# Altium footprint library Footprint Library.PcbLib: 55 footprints (part 2 of 4)
Each footprint in its own frame and in the unit in brackets; x right, y up, seen from the top. Pads: shape width x height; smd on the part's side, far side on the other; paste and mask are expansions set on the pad; w line width, h text height; cw(c..) or ccw(c..) is an arc to the next point about the centre after c.
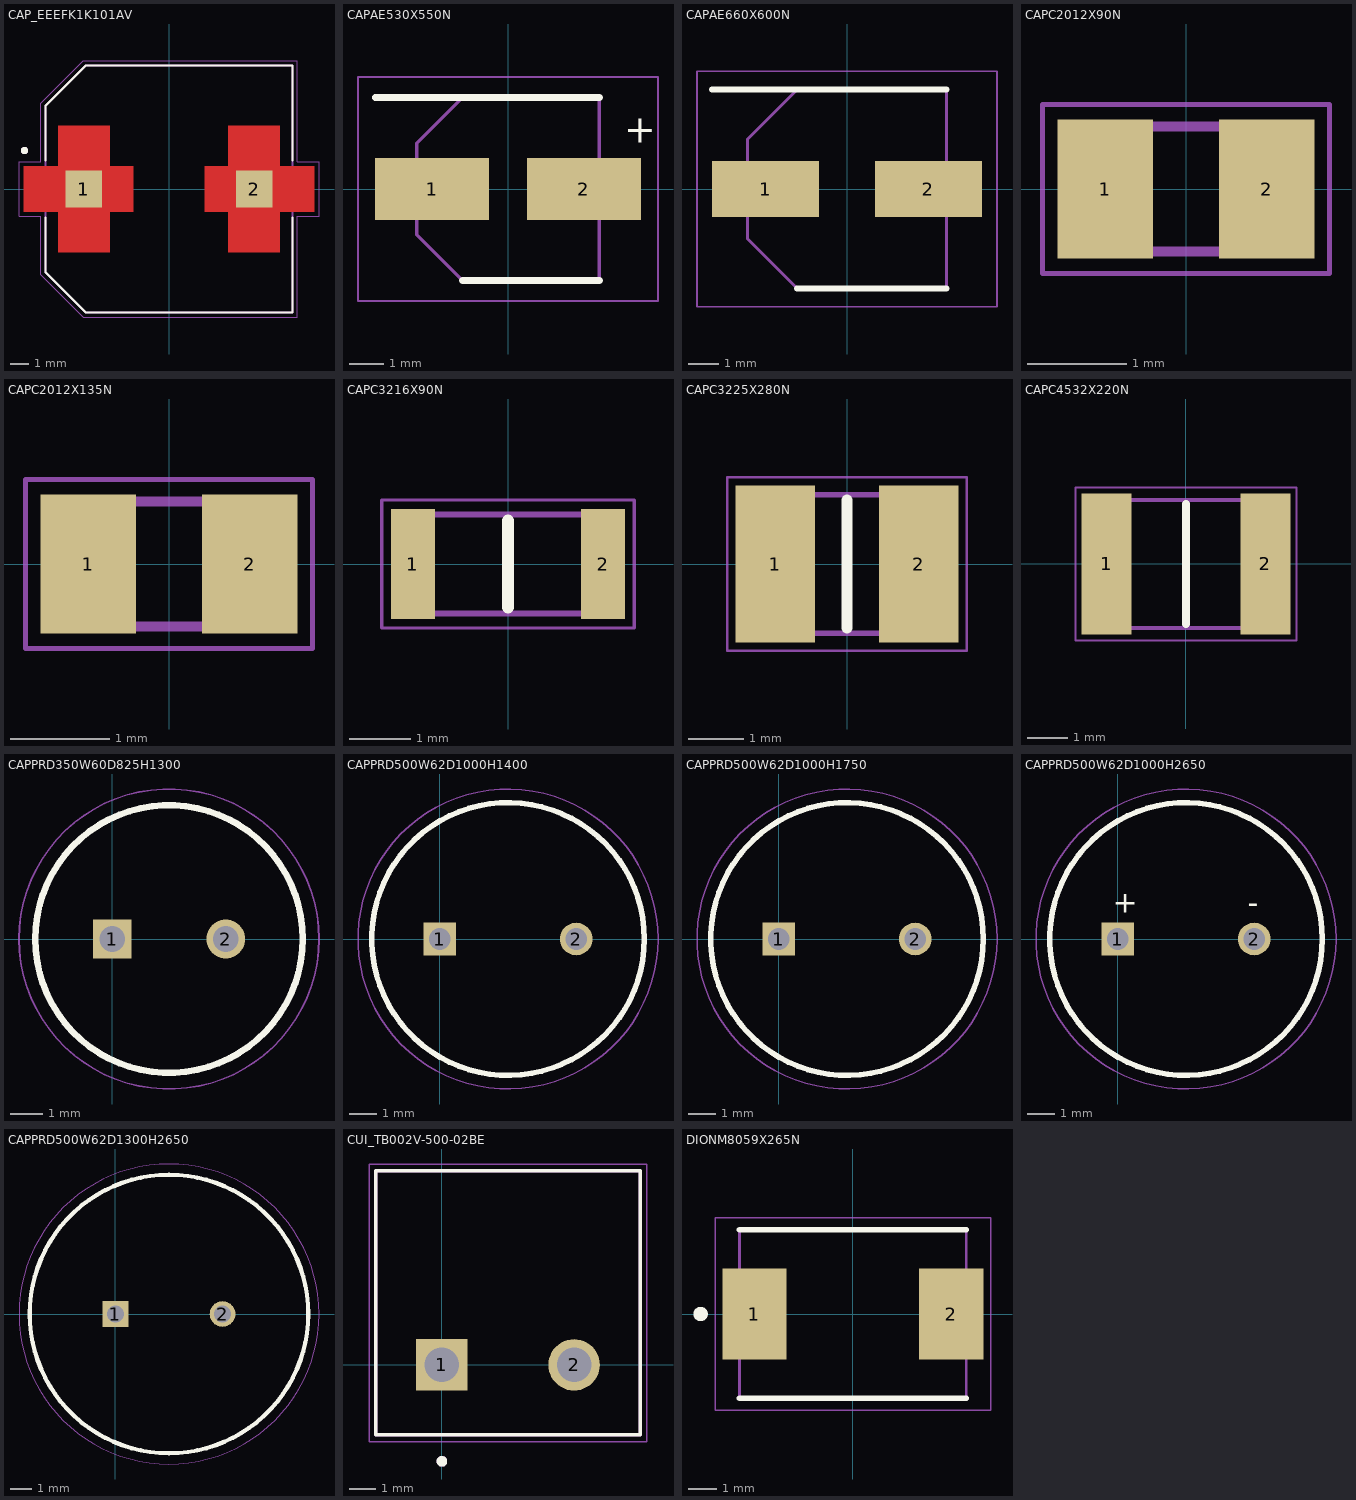
[diagram p1: the footprints below, top view; thin cyan lines are the x and y axes]

## CAP_EEEFK1K101AV [mm]
pads (2):
  rect 2x2 smd paste-2 mask+0: 1(-4.65,0) 2(4.65,0)
Top Layer:
  region: -3.25,1.25 -1.95,1.25 -1.95,-1.25 -3.25,-1.25 -3.25,-3.45 -6.05,-3.45 -6.05,-1.25 -7.95,-1.25 -7.95,1.25 -6.05,1.25 -6.05,3.45 -3.25,3.45
  region: 6.05,1.25 7.95,1.25 7.95,-1.25 6.05,-1.25 6.05,-3.45 3.25,-3.45 3.25,-1.25 1.95,-1.25 1.95,1.25 3.25,1.25 3.25,3.45 6.05,3.45
Top Overlay:
  circle w0.2: c-7.9,2.1 r0.1
  lines w0.127: -6.75,-1.57 -6.75,-4.55 -4.55,-6.75 6.75,-6.75 6.75,-1.57 ; -6.75,1.57 -6.75,4.55 -4.55,6.75 6.75,6.75 6.75,1.57
Top Paste:
  region: -3.25,1.25 -1.95,1.25 -1.95,-1.25 -3.25,-1.25 -3.25,-3.45 -6.05,-3.45 -6.05,-1.25 -7.95,-1.25 -7.95,1.25 -6.05,1.25 -6.05,3.45 -3.25,3.45
  region: 6.05,1.25 7.95,1.25 7.95,-1.25 6.05,-1.25 6.05,-3.45 3.25,-3.45 3.25,-1.25 1.95,-1.25 1.95,1.25 3.25,1.25 3.25,3.45 6.05,3.45
Top Solder:
  region: -3.15,1.35 -1.85,1.35 -1.85,-1.35 -3.15,-1.35 -3.15,-3.55 -6.15,-3.55 -6.15,-1.35 -8.05,-1.35 -8.05,1.35 -6.15,1.35 -6.15,3.55 -3.15,3.55
  region: 6.15,1.35 8.05,1.35 8.05,-1.35 6.15,-1.35 6.15,-3.55 3.15,-3.55 3.15,-1.35 1.85,-1.35 1.85,1.35 3.15,1.35 3.15,3.55 6.15,3.55
Mechanical 13:
  circle w0.2: c-7.9,2.1 r0.1
  lines w0.127: -6.75,-4.55 -6.75,4.55 -4.55,6.75 6.75,6.75 6.75,-6.75 -4.55,-6.75 -6.75,-4.55
Mechanical 15:
  lines w0.05: -8.2,-1.5 -7,-1.5 -7,-4.675 -4.675,-7 7,-7 7,-1.5 8.2,-1.5 8.2,1.5 7,1.5 7,7 -4.675,7 -7,4.675 -7,1.5 -8.2,1.5 -8.2,-1.5
3D body "step_temp.STEP": height 13.8, standoff 0, extent -7.45,-6.75 7.45,6.75

## CAPAE530X550N [mm]
pads (2):
  rect 3.3x1.8 smd: 1(-2.2,0) 2(2.2,0)
Top Overlay:
  lines w0.2: -3.85,2.65 2.65,2.65 ; -1.325,-2.65 2.65,-2.65
  text "+" at 3.375,1.337 h0.8
Mechanical 13:
  lines w0.1: -2.65,-1.325 -1.325,-2.65 2.65,-2.65 2.65,2.65 -1.325,2.65 -2.65,1.325 -2.65,-1.325
Mechanical 15:
  lines w0.05: -4.35,-3.25 -4.35,3.25 4.35,3.25 4.35,-3.25 -4.35,-3.25
3D body "865060440001.stp": height 5.5, standoff 0, extent -3.125,-2.75 3.125,2.75

## CAPAE660X600N [mm]
pads (2):
  rect 3.55x1.85 smd: 1(-2.7,0) 2(2.7,0)
Top Overlay:
  lines w0.2: -4.475,3.3 3.3,3.3 ; -1.65,-3.3 3.3,-3.3
Mechanical 13:
  lines w0.1: -3.3,-1.65 -3.3,1.65 -1.65,3.3 3.3,3.3 3.3,-3.3 -1.65,-3.3 -3.3,-1.65
Mechanical 15:
  lines w0.05: -4.975,-3.9 4.975,-3.9 4.975,3.9 -4.975,3.9 -4.975,-3.9
3D body "50SVPF10M.stp": height 6, standoff 0, extent -3.75,-3.4 3.75,3.4

## CAPC2012X90N [mm]
pads (2):
  rect 0.96x1.39 smd: 1(-0.81,0) 2(0.81,0)
Mechanical 13:
  lines w0.1: -1,-0.625 -1,0.625 1,0.625 1,-0.625 -1,-0.625
Mechanical 15:
  lines w0.05: -1.44,-0.85 -1.44,0.85 1.44,0.85 1.44,-0.85 -1.44,-0.85
3D body "885012207098.stp": height 0.9, standoff 0, extent -1,-0.625 1,0.625

## CAPC2012X135N [mm]
pads (2):
  rect 0.96x1.39 smd: 1(-0.81,0) 2(0.81,0)
Mechanical 13:
  lines w0.1: -1,-0.625 -1,0.625 1,0.625 1,-0.625 -1,-0.625
Mechanical 15:
  lines w0.05: -1.44,-0.85 -1.44,0.85 1.44,0.85 1.44,-0.85 -1.44,-0.85
3D body "885012207103.stp": height 1.35, standoff 0, extent -1,-0.625 1,0.625

## CAPC3216X90N [mm]
pads (2):
  rect 0.71x1.78 smd: 1(-1.54,0) 2(1.54,0)
Top Overlay:
  lines w0.2: 0,-0.7 0,0.7
Mechanical 13:
  lines w0.1: -1.6,-0.8 1.6,-0.8 1.6,0.8 -1.6,0.8 -1.6,-0.8
Mechanical 15:
  lines w0.05: -2.045,-1.04 2.045,-1.04 2.045,1.04 -2.045,1.04 -2.045,-1.04
3D body "885012208087.stp": height 0.9, standoff 0, extent -1.6,-0.8 1.6,0.8

## CAPC3225X280N [mm]
pads (2):
  rect 1.43x2.82 smd: 1(-1.29,0) 2(1.29,0)
Top Overlay:
  lines w0.2: 0,-1.15 0,1.15
Mechanical 13:
  lines w0.1: -1.6,-1.25 -1.6,1.25 1.6,1.25 1.6,-1.25 -1.6,-1.25
Mechanical 15:
  lines w0.05: -2.155,-1.56 -2.155,1.56 2.155,1.56 2.155,-1.56 -2.155,-1.56
3D body "885012209048.stp": height 2.8, standoff 0, extent -1.6,-1.25 1.6,1.25

## CAPC4532X220N [mm]
pads (2):
  rect 1.25x3.52 smd: 1(-1.98,0) 2(1.98,0)
Top Overlay:
  lines w0.2: 0,-1.5 0,1.5
Mechanical 13:
  lines w0.1: -2.25,-1.6 2.25,-1.6 2.25,1.6 -2.25,1.6 -2.25,-1.6
Mechanical 15:
  lines w0.05: -2.755,-1.91 2.755,-1.91 2.755,1.91 -2.755,1.91 -2.755,-1.91
3D body "C1812C104JAGACAUTO.stp": height 2.2, standoff 0, extent -2.25,-1.6 2.25,1.6

## CAPPRD350W60D825H1300 [mm]
pads (2):
  rect 1.2x1.2 hole 0.8: 1(0,0)
  round 1.2 hole 0.8: 2(3.5,0)
Top Overlay:
  circle w0.2: c1.75,0 r4.125
Mechanical 13:
  circle w0.1: c1.75,0 r4.125
Mechanical 15:
  circle w0.05: c1.75,0 r4.625
3D body "APSG160ELL561MHB5J.stp": height 13, standoff -10, extent -2.5,-4.25 6,4.25

## CAPPRD500W62D1000H1400 [mm]
pads (2):
  rect 1.2x1.2 hole 0.8: 1(0,0)
  round 1.2 hole 0.8: 2(5,0)
Top Overlay:
  circle w0.2: c2.5,0 r5
Mechanical 13:
  circle w0.1: c2.5,0 r5
Mechanical 15:
  circle w0.05: c2.5,0 r5.5
3D body "860020675020.stp": height 14, standoff -10, extent -2.75,-5.247 7.75,5.247

## CAPPRD500W62D1000H1750 [mm]
pads (2):
  rect 1.2x1.2 hole 0.8: 1(0,0)
  round 1.2 hole 0.8: 2(5,0)
Top Overlay:
  circle w0.2: c2.5,0 r5
Mechanical 13:
  circle w0.1: c2.5,0 r5
Mechanical 15:
  circle w0.05: c2.5,0 r5.5
3D body "860160675026.stp": height 17.5, standoff -10, extent -2.75,-5.247 7.75,5.247

## CAPPRD500W62D1000H2650 [mm]
pads (2):
  rect 1.2x1.2 hole 0.8: 1(0,0)
  round 1.2 hole 0.8: 2(5,0)
Top Overlay:
  circle w0.2: c2.5,0 r5
  text "-" at 4.772,0.943 h0.8
  text "+" at -0.181,0.956 h0.8
Mechanical 13:
  circle w0.1: c2.5,0 r5
Mechanical 15:
  circle w0.05: c2.5,0 r5.5
3D body "860040775010.stp": height 26.5, standoff -10, extent -2.75,-5.25 7.75,5.25

## CAPPRD500W62D1300H2650 [mm]
pads (2):
  rect 1.2x1.2 hole 0.8: 1(0,0)
  round 1.2 hole 0.8: 2(5,0)
Top Overlay:
  circle w0.2: c2.5,0 r6.5
Mechanical 13:
  circle w0.1: c2.5,0 r6.5
Mechanical 15:
  circle w0.05: c2.5,0 r7
3D body "860160578032.stp": height 26.5, standoff -10, extent -4.25,-6.75 9.25,6.75

## CUI_TB002V-500-02BE [mm]
pads (2):
  rect 1.95x1.95 hole 1.3: 1(0,0)
  round 1.95 hole 1.3: 2(5,0)
Top Overlay:
  circle w0.2: c0,-3.65 r0.1
  lines w0.127: -2.5,-2.65 -2.5,7.35 7.5,7.35 7.5,-2.65 -2.5,-2.65
Mechanical 13:
  circle w0.2: c0,-3.65 r0.1
  lines w0.127: -2.5,-2.65 -2.5,7.35 7.5,7.35 7.5,-2.65 -2.5,-2.65
Mechanical 15:
  lines w0.05: -2.75,-2.9 7.75,-2.9 7.75,7.6 -2.75,7.6 -2.75,-2.9
3D body "CUI_DEVICES_TB002V-500-02BE.step": height 4.45, standoff -7.75, extent -3,-2.65 7.5,7.35

## DIONM8059X265N [mm]
pads (2):
  rect 2.25x3.2 smd: 1(-3.45,0) 2(3.45,0)
Top Overlay:
  circle w0.254: c-5.334,0 r0.127
  lines w0.2: -3.975,-2.95 3.975,-2.95 ; -3.975,2.95 3.975,2.95
Mechanical 13:
  lines w0.1: -3.975,-2.95 -3.975,2.95 3.975,2.95 3.975,-2.95 -3.975,-2.95
Mechanical 15:
  lines w0.05: -4.825,-3.375 -4.825,3.375 4.825,3.375 4.825,-3.375 -4.825,-3.375
3D body "S310.stp": height 2.65, standoff 0, extent -3.975,-2.95 3.975,2.95

## ESH108M063AM2AA [mm]